# Altium schematic symbol library Mark_Library.SchLib: 467 symbols (part 4 of 4)
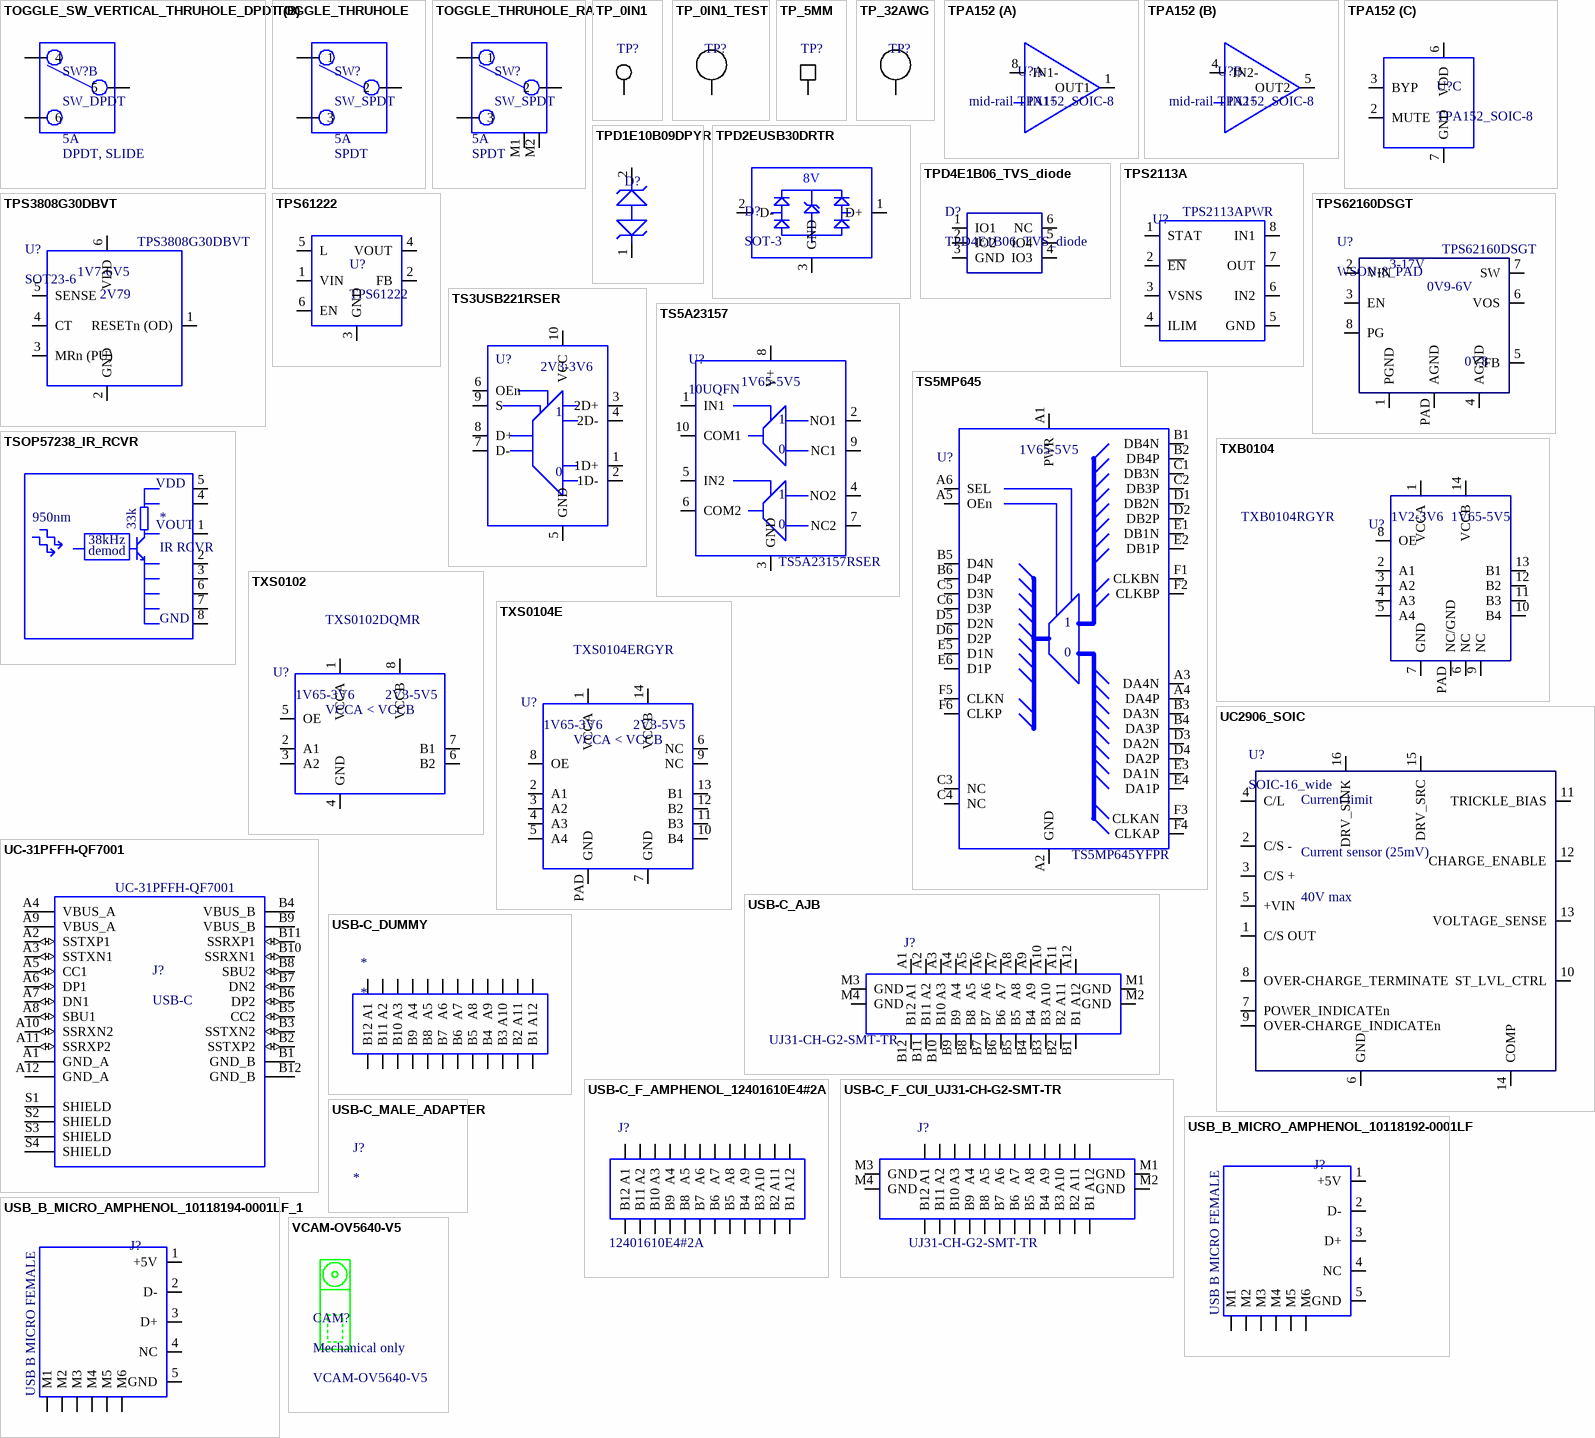
[diagram p22: symbols TOGGLE_SW_VERTICAL_THRUHOLE_DPDT to VCAM-OV5640-V5]

## UC-31PFFH-QF7001
designator J?, comment USB-C  MfgPartNumber: UC-31PFFH-QF7001
USB-C _USB TYPE-C_ USB 3.1 _USB 3.1 Gen 2, Superspeed+_ Receptacle Connector 24 Position Board Edge, Cutout; Surface Mount; Through Hole, Right Angle; Manufacturer: Amphenol LTW; DigikeyPartNumber: 1754-1481-1-ND
footprint AMPHENOL_UC-31PFFH-QF7001
pins: A1 GND_A (power), A2 SSTXP1 (io), A3 SSTXN1 (io), A4 VBUS_A (power), A5 CC1 (io), A6 DP1 (io), A7 DN1 (io), A8 SBU1 (io), A9 VBUS_A (power), A10 SSRXN2 (io), A11 SSRXP2 (io), A12 GND_A (power), B1 GND_B (power), B2 SSTXP2 (io), B3 SSTXN2 (io), B4 VBUS_B (power), B5 CC2 (io), B6 DP2 (io), B7 DN2 (io), B8 SBU2 (io), B9 VBUS_B (power), B10 SSRXN1 (io), B11 SSRXP1 (io), B12 GND_B (power), S1 SHIELD, S2 SHIELD, S3 SHIELD, S4 SHIELD

## USB-C_AJB
designator J?  MfgPartNumber: UJ31-CH-G2-SMT-TR  (hidden comment: *)
USB-C female with non-standard pinout for AJBs; Manufacturer: CUI; DigikeyPartNumber: 102-4483-1-ND
footprint USB-C_UJ31-CH-G2-SMT-TR (USB JACK 3.1, C TYPE, 24 PIN, HO)
pins: A1, A2, A3, A4, A5, A6, A7, A8, A9, A10, A11, A12, B1, B2, B3, B4, B5, B6, B7, B8, B9, B10, B11, B12, M1 GND, M2 GND, M3 GND, M4 GND

## USB-C_DUMMY
designator *
pins: PAD A1, PAD A2, PAD A3, PAD A4, PAD A5, PAD A6, PAD A7, PAD A8, PAD A9, PAD A10, PAD A11, PAD A12, PAD B1, PAD B2, PAD B3, PAD B4, PAD B5, PAD B6, PAD B7, PAD B8, PAD B9, PAD B10, PAD B11, PAD B12

## USB-C_F_AMPHENOL_12401610E4#2A
designator J?  MfgPartNumber: 12401610E4#2A  (hidden comment: *)
USB - C USB 3.1 (USB 3.1 Gen 2, Superspeed+) Receptacle Connector 24 Position Surface Mount, Right Angle; Through Hole; Manufacturer: Amphenol; DigikeyPartNumber: 12401610E4#2ACT-ND
pins: PAD A1, PAD A2, PAD A3, PAD A4, PAD A5, PAD A6, PAD A7, PAD A8, PAD A9, PAD A10, PAD A11, PAD A12, PAD B1, PAD B2, PAD B3, PAD B4, PAD B5, PAD B6, PAD B7, PAD B8, PAD B9, PAD B10, PAD B11, PAD B12

## USB-C_F_CUI_UJ31-CH-G2-SMT-TR
designator J?  MfgPartNumber: UJ31-CH-G2-SMT-TR  (hidden comment: *)
USB - C USB 3.1 (USB 3.1 Gen 2, Superspeed+) Receptacle Connector 24 Position Board Cutout, Surface Mount, Right Angle; Through Hole; Manufacturer: CUI; DigikeyPartNumber: 102-4483-1-ND
footprint USB-C_UJ31-CH-G2-SMT-TR (USB JACK 3.1, C TYPE, 24 PIN, HO)
pins: M1 GND, M2 GND, M3 GND, M4 GND, PAD A1, PAD A2, PAD A3, PAD A4, PAD A5, PAD A6, PAD A7, PAD A8, PAD A9, PAD A10, PAD A11, PAD A12, PAD B1, PAD B2, PAD B3, PAD B4, PAD B5, PAD B6, PAD B7, PAD B8, PAD B9, PAD B10, PAD B11, PAD B12

## USB-C_MALE_ADAPTER
designator J?
small PCB for USB-C-male breakout

## USB_B_MICRO_AMPHENOL_10118192-0001LF
designator J?  Device: USB B MICRO FEMALE  (hidden comment: *)
AMPHENOL 10118192-0001LF; Manufacturer: Amphenol; MfgPartNumber: 10118192-0001LF; DigikeyPartNumber: 609-4613-1-ND
footprint amphenol_10118192
pins: 1 +5V, 2 D-, 3 D+, 4 NC, 5 GND, M1, M2, M3, M4, M5, M6

## USB_B_MICRO_AMPHENOL_10118194-0001LF_1
designator J?  Device: USB B MICRO FEMALE  (hidden comment: *)
AMPHENOL 10118192-0001LF; MfgPartNumber: 10118194-0001LF; Manufacturer: Amphenol; DigikeyPartNumber: 609-4618-1-ND
footprint amphenol_10118194 (USB B MICRO THRU-HOLE)
pins: 1 +5V, 2 D-, 3 D+, 4 NC, 5 GND, M1, M2, M3, M4, M5, M6

## VCAM-OV5640-V5
designator CAM?, comment Mechanical only  VariscitePartNumber: VCAM-OV5640-V5  (mechanical)
5MP camera module from KLT. JAL-MIPI-OV5640 V5.0. Distributed by Variscite.; Manufacturer: KLT; DigikeyPartNumber: Buy_from_Variscite
footprint VCAM-OV5640-V5 (40-pin BtB connector.)

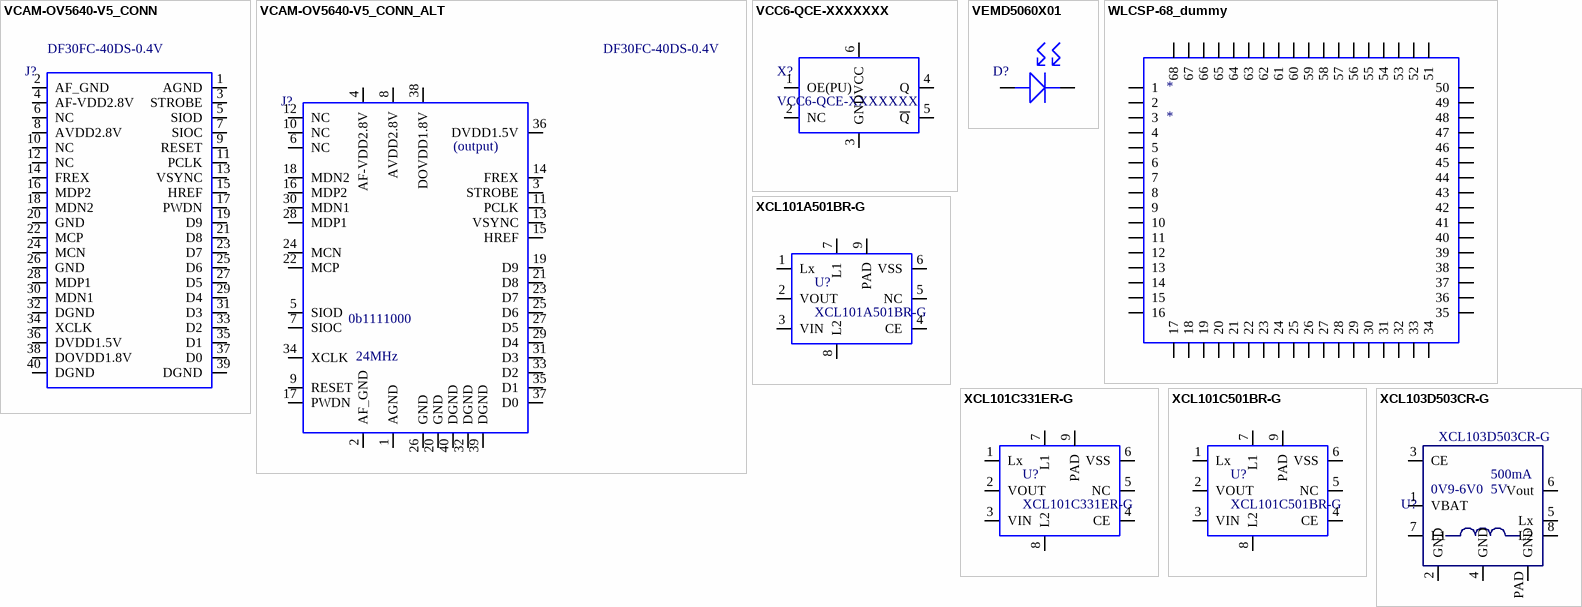
[diagram p19: symbols VCAM-OV5640-V5_CONN to XCL103D503CR-G]

## VCAM-OV5640-V5_CONN
designator J?, comment MfgPartNumber: DF30FC-40DS-0.4V  (hidden comment: BUY VCAM-OV5640-V5)
Board to Board & Mezzanine Connectors 40P DR SMT RECEPT W/O FITTING W/O BOSS; Manufacturer: Hirose; MouserPartNumber: 798-DF30FC40DS0.4V82; DigikeyPartNumber: Buy_at_Mouser
footprint DF30FC-40DS-0.4V_REVERSE (40-pin BtB connector. REVERSED to mate with properly-numbered male connector)
pins: 1 AGND, 2 AF_GND, 3 STROBE, 4 AF-VDD2.8V, 5 SIOD, 6 NC, 7 SIOC, 8 AVDD2.8V, 9 RESET, 10 NC, 11 PCLK, 12 NC, 13 VSYNC, 14 FREX, 15 HREF, 16 MDP2, 17 PWDN, 18 MDN2, 19 D9, 20 GND, 21 D8, 22 MCP, 23 D7, 24 MCN, 25 D6, 26 GND, 27 D5, 28 MDP1, 29 D4, 30 MDN1, 31 D3, 32 DGND, 33 D2, 34 XCLK, 35 D1, 36 DVDD1.5V, 37 D0, 38 DOVDD1.8V, 39 DGND, 40 DGND

## VCAM-OV5640-V5_CONN_ALT
designator J?, comment MfgPartNumber: DF30FC-40DS-0.4V  (hidden comment: BUY VCAM-OV5640-V5)
Board to Board & Mezzanine Connectors 40P DR SMT RECEPT W/O FITTING W/O BOSS; Manufacturer: Hirose; MouserPartNumber: 798-DF30FC40DS0.4V82; DigikeyPartNumber: Buy_at_Mouser
footprint DF30FC-40DS-0.4V_REVERSE (40-pin BtB connector. REVERSED to mate with properly-numbered male connector)
pins: 1 AGND, 2 AF_GND, 3 STROBE, 4 AF-VDD2.8V, 5 SIOD, 6 NC, 7 SIOC, 8 AVDD2.8V, 9 RESET, 10 NC, 11 PCLK, 12 NC, 13 VSYNC, 14 FREX, 15 HREF, 16 MDP2, 17 PWDN, 18 MDN2, 19 D9, 20 GND, 21 D8, 22 MCP, 23 D7, 24 MCN, 25 D6, 26 GND, 27 D5, 28 MDP1, 29 D4, 30 MDN1, 31 D3, 32 DGND, 33 D2, 34 XCLK, 35 D1, 36 DVDD1.5V, 37 D0, 38 DOVDD1.8V, 39 DGND, 40 DGND
text: (output); 0b1111000; 24MHz

## VCC6-QCE-XXXXXXX
designator X?
high precision oscillator; Manufacturer: Vectron; MfgPartNumber: lookup; MouserPartNumber: Lookup
footprint VCC6_7x5mm (6-pin for VCC6 oscillator, 7x5mm)
pins: 1 OE(PU), 2 NC, 3 GND, 4 Q, 5 ~{Q}, 6 VCC

## VEMD5060X01
designator D?  (value not drawn)
PHOTODIODE PIN 820NM SMD; MfgPartNumber: VEMD5060X01; Manufacturer: Vishay; DigikeyPartNumber: VEMD5060X01CT-ND
footprint VEMD5060X01 (5x4x0.9 photodiode/solar cell)
pins: A, C

## WLCSP-68_dummy
designator *
dummy part for YSK/Marcelo project
footprint WLCSP-68_dummy (dummy part for YSK/Marcelo project)
pins: 9 1, 10 2, 11 3, 12 4, 13 5, 14 6, 15 7, 16 8, 17 9, 17, 18 10, 18, 19 11, 19, 20 12, 20, 21 13, 21, 22 14, 22, 23 15, 23, 24 16, 24, 25, 26, 27, 28, 29, 30, 31, 32, 33, 34, 35, 36, 37, 38, 39, 40, 41, 42, 43, 44, 45, 46, 47, 48, 49, 50, 51, 52, 53, 54, 55, 56, 57, 58, 59, 60, 61, 62, 63, 64, 65, 66, 67, 68

## XCL101A501BR-G
designator U?
5V switching reg w/ integrated inductor; Manufacturer: Torex Semiconductor; MfgPartNumber: XCL101A501ER-G; DigikeyPartNumber: 893-1395-1-ND
footprint XCL101XXX (switching supply)
pins: 1 Lx, 2 VOUT, 3 VIN, 4 CE, 5 NC, 6 VSS, 7 L1, 8 L2, 9 PAD

## XCL101C331ER-G
designator U?
3V3 switching reg w/ integrated inductor; Manufacturer: Torex Semiconductor; DigikeyPartNumber: 893-1394-1-ND; MfgPartNumber: XCL101C331ER-G
footprint XCL101CXX (switching supply)
pins: 1 Lx, 2 VOUT, 3 VIN, 4 CE, 5 NC, 6 VSS, 7 L1, 8 L2, 9 PAD

## XCL101C501BR-G
designator U?
5V switching reg w/ integrated inductor; Manufacturer: Torex Semiconductor; DigikeyPartNumber: 893-1210-1-ND; MfgPartNumber: XCL101C501BR-G
footprint XCL101CXX (switching supply)
pins: 1 Lx, 2 VOUT, 3 VIN, 4 CE, 5 NC, 6 VSS, 7 L1, 8 L2, 9 PAD

## XCL103D503CR-G
designator U?  MfgPartNumber: XCL103D503CR-G
DC DC CONVERTER 4.9-5.1V 2.5W; Manufacturer: Torex Semiconductor; DigikeyPartNumber: 893-1387-1-ND
footprint XCL101XXX (switching supply)
pins: 1 VBAT, 2 GND, 3 CE, 4 GND, 5 Lx, 6 Vout, 7 L1, 8 L2, PAD GND
text: 500mA; 0V9-6V0; 5V